# Altium footprint library FQD13N06TM.PcbLib: 1 footprints
Each footprint in its own frame and in the unit in brackets; x right, y up, seen from the top. Pads: shape width x height; smd on the part's side, far side on the other; paste and mask are expansions set on the pad; w line width, h text height; cw(c..) or ccw(c..) is an arc to the next point about the centre after c.
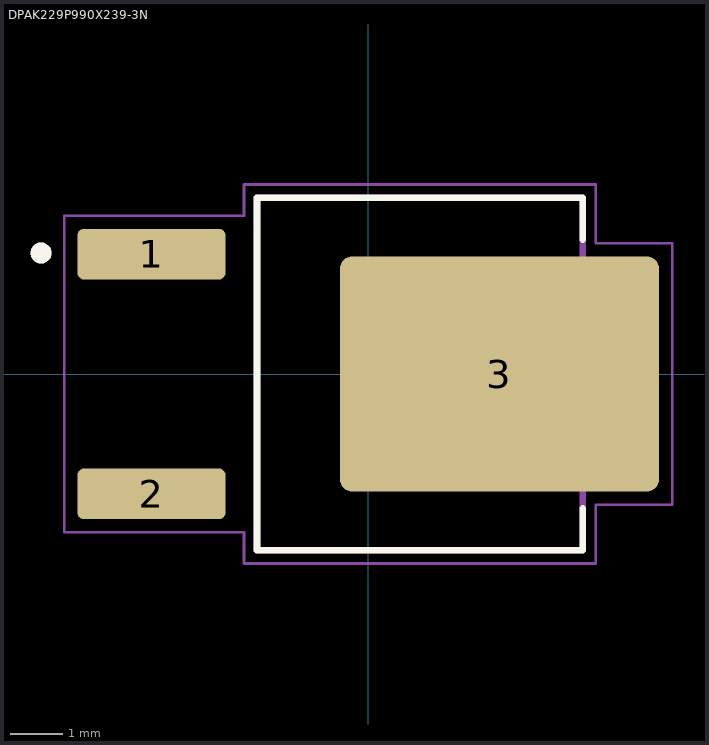
[diagram p0: the footprint, top view; thin cyan lines are the x and y axes]

## DPAK229P990X239-3N [mm]
pads (3):
  rrect25% 2.83x0.97 smd: 1(-4.14,2.29) 2(-4.14,-2.29)
  rrect10% 6.1x4.49 smd paste-4: 3(2.51,0)
Top Overlay:
  circle w0.2: c-6.25,2.312 r0.1
  lines w0.127: 4.098,-2.565 4.098,-3.37 -2.123,-3.37 -2.123,3.37 4.098,3.37 4.098,2.565
Top Paste:
  region: 5.305,-1.865 3.775,-1.865 3.775,-0.375 5.305,-0.375
  region: 3.275,-1.865 1.745,-1.865 1.745,-0.375 3.275,-0.375
  region: 1.245,-1.865 -0.285,-1.865 -0.285,-0.375 1.245,-0.375
  region: 5.305,0.375 3.775,0.375 3.775,1.865 5.305,1.865
  region: 1.245,0.375 -0.285,0.375 -0.285,1.865 1.245,1.865
  region: 3.275,0.375 1.745,0.375 1.745,1.865 3.275,1.865
Mechanical 13:
  circle w0.2: c-6.25,2.312 r0.1
  lines w0.127: -2.123,-3.37 4.098,-3.37 4.098,3.37 -2.123,3.37 -2.123,-3.37
Mechanical 15:
  lines w0.05: -5.805,-3.025 -2.373,-3.025 -2.373,-3.62 4.348,-3.62 4.348,-2.495 5.81,-2.495 5.81,2.495 4.348,2.495 4.348,3.62 -2.373,3.62 -2.373,3.025 -5.805,3.025 -5.805,-3.025